# EAGLE library part FDC37C665GT (library smsc)
High performance Multi-Mode Parallel Port Super I/O Floppy Disk Controller
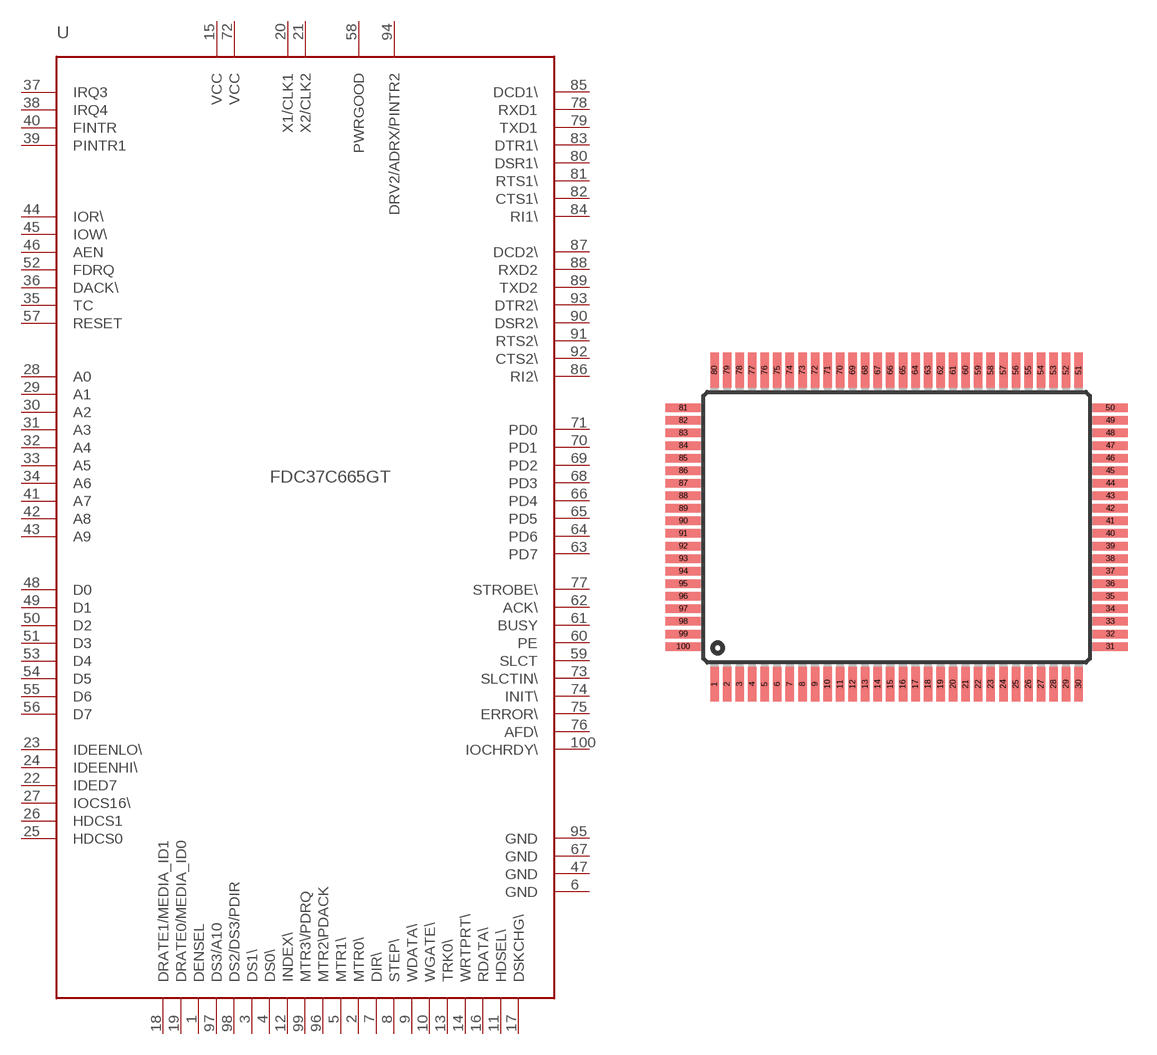
[diagram p0: symbol with the pads of PQFP100; footprint PQFP100]

Designator prefix U

## FDC37C665GT  [PQFP100]
1  DENSEL  out
2  MTR0\  out
3  DS1\  out
4  DS0\  out
5  MTR1\  out
6  GND  out
7  DIR\  out
8  STEP\  out
9  WDATA\  out
10  WGATE\  out
11  HDSEL\  out
12  INDEX\  in
13  TRK0\  in
14  WRTPRT\  in
15  VCC
16  RDATA\  in
17  DSKCHG\  in
18  DRATE1/MEDIA_ID1
19  DRATE0/MEDIA_ID0
20  X1/CLK1  in
21  X2/CLK2  out
22  IDED7
23  IDEENLO\  out
24  IDEENHI\  out
25  HDCS0  out
26  HDCS1  out
27  IOCS16\  in
28  A0  in
29  A1  in
30  A2  in
31  A3  in
32  A4  in
33  A5  in
34  A6  in
35  TC  in
36  DACK\  in
37  IRQ3  out
38  IRQ4  out
39  PINTR1  out
40  FINTR  out
41  A7  in
42  A8  in
43  A9  in
44  IOR\  in
45  IOW\  in
46  AEN  in
47  GND  out
48  D0
49  D1
50  D2
51  D3
52  FDRQ  out
53  D4
54  D5
55  D6
56  D7
57  RESET  in
58  PWRGOOD  in
59  SLCT  in
60  PE  in
61  BUSY  in
62  ACK\  in
63  PD7
64  PD6
65  PD5
66  PD4
67  GND  out
68  PD3
69  PD2
70  PD1
71  PD0
72  VCC
73  SLCTIN\  out
74  INIT\  out
75  ERROR\  in
76  AFD\  out
77  STROBE\  out
78  RXD1  in
79  TXD1  out
80  DSR1\  in
81  RTS1\  out
82  CTS1\  in
83  DTR1\  out
84  RI1\  in
85  DCD1\  in
86  RI2\  in
87  DCD2\  in
88  RXD2  in
89  TXD2  out
90  DSR2\  in
91  RTS2\  out
92  CTS2\  in
93  DTR2\  out
94  DRV2/ADRX/PINTR2  in
95  GND  out
96  MTR2\PDACK  out
97  DS3/A10  out
98  DS2/DS3/PDIR  out
99  MTR3\/PDRQ  out
100  IOCHRDY\  out

## Footprint PQFP100 (pad centres in mm)
smd 0.44 x 1.8: 1 -9.425,-8.125; 2 -8.775,-8.125; 3 -8.125,-8.125; 4 -7.475,-8.125; 5 -6.825,-8.125; 6 -6.175,-8.125; 7 -5.525,-8.125; 8 -4.875,-8.125; 9 -4.225,-8.125; 10 -3.575,-8.125; 11 -2.925,-8.125; 12 -2.275,-8.125; 13 -1.625,-8.125; 14 -0.975,-8.125; 15 -0.325,-8.125; 16 0.325,-8.125; 17 0.975,-8.125; 18 1.625,-8.125; 19 2.275,-8.125; 20 2.925,-8.125; 21 3.575,-8.125; 22 4.225,-8.125; 23 4.875,-8.125; 24 5.525,-8.125; 25 6.175,-8.125; 26 6.825,-8.125; 27 7.475,-8.125; 28 8.125,-8.125; 29 8.775,-8.125; 30 9.425,-8.125; 51 9.425,8.125; 52 8.775,8.125; 53 8.125,8.125; 54 7.475,8.125; 55 6.825,8.125; 56 6.175,8.125; 57 5.525,8.125; 58 4.875,8.125; 59 4.225,8.125; 60 3.575,8.125; 61 2.925,8.125; 62 2.275,8.125; 63 1.625,8.125; 64 0.975,8.125; 65 0.325,8.125; 66 -0.325,8.125; 67 -0.975,8.125; 68 -1.625,8.125; 69 -2.275,8.125; 70 -2.925,8.125; 71 -3.575,8.125; 72 -4.225,8.125; 73 -4.875,8.125; 74 -5.525,8.125; 75 -6.175,8.125; 76 -6.825,8.125; 77 -7.475,8.125; 78 -8.125,8.125; 79 -8.775,8.125; 80 -9.425,8.125
smd 1.8 x 0.44: 31 11.05,-6.175; 32 11.05,-5.525; 33 11.05,-4.875; 34 11.05,-4.225; 35 11.05,-3.575; 36 11.05,-2.925; 37 11.05,-2.275; 38 11.05,-1.625; 39 11.05,-0.975; 40 11.05,-0.325; 41 11.05,0.325; 42 11.05,0.975; 43 11.05,1.625; 44 11.05,2.275; 45 11.05,2.925; 46 11.05,3.575; 47 11.05,4.225; 48 11.05,4.875; 49 11.05,5.525; 50 11.05,6.175; 81 -11.05,6.175; 82 -11.05,5.525; 83 -11.05,4.875; 84 -11.05,4.225; 85 -11.05,3.575; 86 -11.05,2.925; 87 -11.05,2.275; 88 -11.05,1.625; 89 -11.05,0.975; 90 -11.05,0.325; 91 -11.05,-0.325; 92 -11.05,-0.975; 93 -11.05,-1.625; 94 -11.05,-2.275; 95 -11.05,-2.925; 96 -11.05,-3.575; 97 -11.05,-4.225; 98 -11.05,-4.875; 99 -11.05,-5.525; 100 -11.05,-6.175